# Altium schematic symbol library WS-TASV SMD Tact Switch 4.5X4.5 mm.SchLib: 1 symbol
Pins are listed as number, name and electrical type; pins without a type are passive.

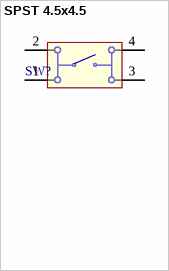
[diagram p0: symbol SPST 4.5x4.5]

## SPST 4.5x4.5
designator SW?
WS-TASV SMD Tact Switch 4.5X4.5 mm; PartNumber: 430181038816; NoPins: 04; PackageReference: 430181038816; ComponentLink1Description: Manufacturer URL; ComponentLink1URL: http://www.we-online.com; ComponentLink2Description: Datasheet; ComponentLink2URL: http://katalog.we-online.de/em/datasheet/430181038816.pdf
footprint 430181038816 (4.5*4.5mm vertical type, SMD, height 3.8mm, black actuator, 160gf, T&R)
pins: 1, 2, 3, 4